# Altium footprint library BMI270.PcbLib: 3 footprints
Each footprint in its own frame and in the unit in brackets; x right, y up, seen from the top. Pads: shape width x height; smd on the part's side, far side on the other; paste and mask are expansions set on the pad; w line width, h text height; cw(c..) or ccw(c..) is an arc to the next point about the centre after c.
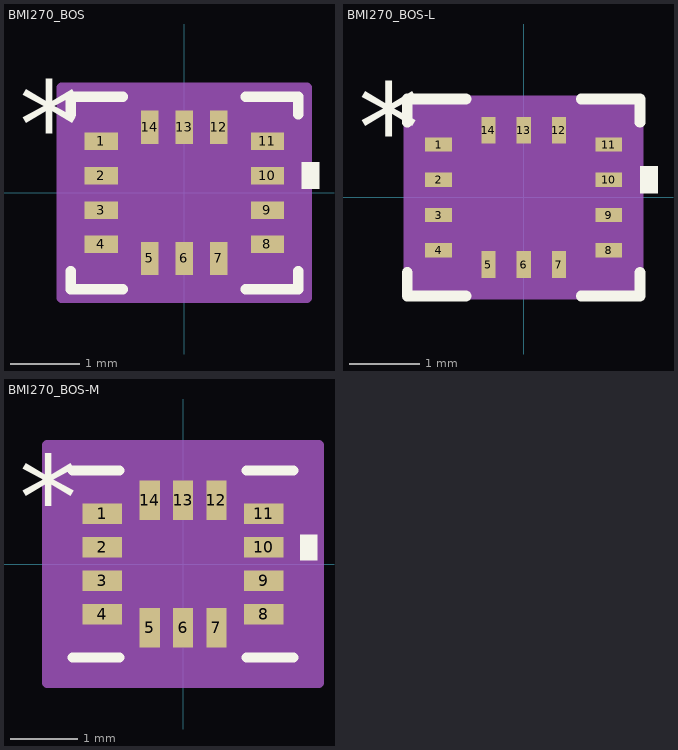
[diagram p0: the footprints below, top view; thin cyan lines are the x and y axes]

## BMI270_BOS [mil]
pads (14):
  rect 19x10 smd paste+0 mask+0: 1(-47.5,29.53) 2(-47.5,9.84) 3(-47.5,-9.84) 4(-47.5,-29.53) 8(47.5,-29.53) 9(47.5,-9.84) 10(47.5,9.84) 11(47.5,29.53)
  rect 10x19 smd paste+0 mask+0: 5(-19.68,-37.5) 6(0,-37.5) 7(19.68,-37.5) 12(19.68,37.5) 13(0,37.5) 14(-19.68,37.5)
Top Overlay:
  region: 67,17.34 77,17.34 77,2.34 67,2.34
  lines w6: -65,-44.9 -65,-55 -35.06,-55 ; -65,44.9 -65,55 -35.06,55 ; 35.06,-55 65,-55 65,-44.9 ; 35.06,55 65,55 65,44.9
  text "*" at -94.5,14.37 h50
  text ".Designator" at -137.5,-25 h50
Mechanical 13:
  lines w1: -60,0 -10,50 ; -60,-50 60,-50 ; -60,-50 -60,50 ; -60,-50 -60,-50 ; -60,50 60,50 ; -60,50 -60,50 ; 60,-50 60,-50 ; 60,-50 60,50 ; 60,50 60,50 ; -60,-34.53 -60,-24.53 -57,-24.53 -57,-34.53 -60,-34.53 ; -60,-14.84 -60,-4.84 -57,-4.84 -57,-14.84 -60,-14.84 ; -60,4.84 -60,14.84 -57,14.84 -57,4.84 -60,4.84 ; -60,24.53 -60,34.53 -57,34.53 -57,24.53 -60,24.53 ; -24.68,-50 -14.69,-50 -14.69,-47 -24.68,-47 -24.68,-50 ; -24.68,47 -14.69,47 -14.69,50 -24.68,50 -24.68,47 ; -5,-50 5,-50 5,-47 -5,-47 -5,-50 ; -5,47 5,47 5,50 -5,50 -5,47 ; 14.69,-50 24.68,-50 24.68,-47 14.69,-47 14.69,-50 ; 14.69,47 24.68,47 24.68,50 14.69,50 14.69,47 ; 57,-34.53 60,-34.53 60,-24.53 57,-24.53 57,-34.53 ; 57,-14.84 60,-14.84 60,-4.84 57,-4.84 57,-14.84 ; 57,4.84 60,4.84 60,14.84 57,14.84 57,4.84 ; 57,24.53 60,24.53 60,34.53 57,34.53 57,24.53
  text ".Designator" at -137.5,-25 h50
  text "*" at -50.5,14.37 h50
Mechanical 15:
  region: -34.69,-60 -70,-60 -70,-44.53 -70,44.53 -70,60 -34.69,60 34.69,60 70,60 70,44.53 70,-44.53 70,-60 34.69,-60
  lines w6: -70,-44.53 -70,-60 -34.69,-60 ; -70,-44.53 -70,-44.53 ; -70,-44.53 -70,44.53 ; -70,44.53 -70,44.53 ; -70,44.53 -70,60 -34.69,60 ; -34.69,-60 34.69,-60 ; -34.69,-60 -34.69,-60 ; -34.69,60 -34.69,60 ; -34.69,60 34.69,60 ; 34.69,-60 70,-60 70,-44.53 ; 34.69,-60 34.69,-60 ; 34.69,60 34.69,60 ; 34.69,60 70,60 70,44.53 ; 70,-44.53 70,44.53 ; 70,-44.53 70,-44.53 ; 70,44.53 70,44.53
3D body "BMI270_BOS.step": height 34.09, standoff 0, extent -60,-50 60,50

## BMI270_BOS-L [mil]
pads (14):
  rect 15x8 smd paste+0 mask+0: 1(-47.5,29.53) 2(-47.5,9.84) 3(-47.5,-9.84) 4(-47.5,-29.53) 8(47.5,-29.53) 9(47.5,-9.84) 10(47.5,9.84) 11(47.5,29.53)
  rect 8x15 smd paste+0 mask+0: 5(-19.68,-37.5) 6(0,-37.5) 7(19.68,-37.5) 12(19.68,37.5) 13(0,37.5) 14(-19.68,37.5)
Top Overlay:
  region: 65,17.34 75,17.34 75,2.34 65,2.34
  lines w6: -65,-41.99 -65,-55 -32.15,-55 ; -65,41.99 -65,55 -32.15,55 ; 32.15,-55 65,-55 65,-41.99 ; 32.15,55 65,55 65,41.99
  text "*" at -92.5,14.37 h50
  text ".Designator" at -137.5,-25 h50
Mechanical 13:
  lines w1: -60,0 -10,50 ; -60,-50 60,-50 ; -60,-50 -60,50 ; -60,-50 -60,-50 ; -60,50 60,50 ; -60,50 -60,50 ; 60,-50 60,-50 ; 60,-50 60,50 ; 60,50 60,50 ; -60,-34.53 -60,-24.53 -57,-24.53 -57,-34.53 -60,-34.53 ; -60,-14.84 -60,-4.84 -57,-4.84 -57,-14.84 -60,-14.84 ; -60,4.84 -60,14.84 -57,14.84 -57,4.84 -60,4.84 ; -60,24.53 -60,34.53 -57,34.53 -57,24.53 -60,24.53 ; -24.68,-50 -14.69,-50 -14.69,-47 -24.68,-47 -24.68,-50 ; -24.68,47 -14.69,47 -14.69,50 -24.68,50 -24.68,47 ; -5,-50 5,-50 5,-47 -5,-47 -5,-50 ; -5,47 5,47 5,50 -5,50 -5,47 ; 14.69,-50 24.68,-50 24.68,-47 14.69,-47 14.69,-50 ; 14.69,47 24.68,47 24.68,50 14.69,50 14.69,47 ; 57,-34.53 60,-34.53 60,-24.53 57,-24.53 57,-34.53 ; 57,-14.84 60,-14.84 60,-4.84 57,-4.84 57,-14.84 ; 57,4.84 60,4.84 60,14.84 57,14.84 57,4.84 ; 57,24.53 60,24.53 60,34.53 57,34.53 57,24.53
  text ".Designator" at -137.5,-25 h50
  text "*" at -52.5,14.37 h50
Mechanical 15:
  region: -27.68,-54 -64,-54 -64,-37.53 -64,37.53 -64,54 -27.68,54 27.68,54 64,54 64,37.53 64,-37.53 64,-54 27.68,-54
  lines w6: -64,-37.53 -64,-54 -27.68,-54 ; -64,-37.53 -64,-37.53 ; -64,-37.53 -64,37.53 ; -64,37.53 -64,37.53 ; -64,37.53 -64,54 -27.68,54 ; -27.68,-54 27.68,-54 ; -27.68,-54 -27.68,-54 ; -27.68,54 -27.68,54 ; -27.68,54 27.68,54 ; 27.68,-54 64,-54 64,-37.53 ; 27.68,-54 27.68,-54 ; 27.68,54 27.68,54 ; 27.68,54 64,54 64,37.53 ; 64,-37.53 64,37.53 ; 64,-37.53 64,-37.53 ; 64,37.53 64,37.53
3D body "BMI270_BOS.step": height 34.09, standoff 0, extent -60,-50 60,50

## BMI270_BOS-M [mil]
pads (14):
  rect 23x12 smd paste+0 mask+0: 1(-47.5,29.53) 2(-47.5,9.84) 3(-47.5,-9.84) 4(-47.5,-29.53) 8(47.5,-29.53) 9(47.5,-9.84) 10(47.5,9.84) 11(47.5,29.53)
  rect 12x23 smd paste+0 mask+0: 5(-19.68,-37.5) 6(0,-37.5) 7(19.68,-37.5) 12(19.68,37.5) 13(0,37.5) 14(-19.68,37.5)
Top Overlay:
  region: 69,17.34 79,17.34 79,2.34 69,2.34
  lines w6: -65,-55 -37.33,-55 ; -65,55 -37.33,55 ; 37.33,-55 65,-55 ; 37.33,55 65,55
  text "*" at -96.5,14.37 h50
  text ".Designator" at -137.5,-25 h50
Mechanical 13:
  lines w1: -60,0 -10,50 ; -60,-50 60,-50 ; -60,-50 -60,50 ; -60,-50 -60,-50 ; -60,50 60,50 ; -60,50 -60,50 ; 60,-50 60,-50 ; 60,-50 60,50 ; 60,50 60,50 ; -60,-34.53 -60,-24.53 -57,-24.53 -57,-34.53 -60,-34.53 ; -60,-14.84 -60,-4.84 -57,-4.84 -57,-14.84 -60,-14.84 ; -60,4.84 -60,14.84 -57,14.84 -57,4.84 -60,4.84 ; -60,24.53 -60,34.53 -57,34.53 -57,24.53 -60,24.53 ; -24.68,-50 -14.69,-50 -14.69,-47 -24.68,-47 -24.68,-50 ; -24.68,47 -14.69,47 -14.69,50 -24.68,50 -24.68,47 ; -5,-50 5,-50 5,-47 -5,-47 -5,-50 ; -5,47 5,47 5,50 -5,50 -5,47 ; 14.69,-50 24.68,-50 24.68,-47 14.69,-47 14.69,-50 ; 14.69,47 24.68,47 24.68,50 14.69,50 14.69,47 ; 57,-34.53 60,-34.53 60,-24.53 57,-24.53 57,-34.53 ; 57,-14.84 60,-14.84 60,-4.84 57,-4.84 57,-14.84 ; 57,4.84 60,4.84 60,14.84 57,14.84 57,4.84 ; 57,24.53 60,24.53 60,34.53 57,34.53 57,24.53
  text ".Designator" at -137.5,-25 h50
  text "*" at -48.5,14.37 h50
Mechanical 15:
  region: -45.69,-70 -80,-70 -80,-55.53 -80,55.53 -80,70 -45.69,70 45.69,70 80,70 80,55.53 80,-55.53 80,-70 45.69,-70
  lines w6: -80,-55.53 -80,-70 -45.69,-70 ; -80,-55.53 -80,-55.53 ; -80,-55.53 -80,55.53 ; -80,55.53 -80,55.53 ; -80,55.53 -80,70 -45.69,70 ; -45.69,-70 45.69,-70 ; -45.69,-70 -45.69,-70 ; -45.69,70 -45.69,70 ; -45.69,70 45.69,70 ; 45.69,-70 80,-70 80,-55.53 ; 45.69,-70 45.69,-70 ; 45.69,70 45.69,70 ; 45.69,70 80,70 80,55.53 ; 80,-55.53 80,55.53 ; 80,-55.53 80,-55.53 ; 80,55.53 80,55.53
3D body "BMI270_BOS.step": height 34.09, standoff 0, extent -60,-50 60,50